# Altium footprint library ebf_mp157 s1 dev board_20210223_PCB封装_AD格式.PcbLib: 69 footprints (part 3 of 5)
Each footprint in its own frame and in the unit in brackets; x right, y up, seen from the top. Pads: shape width x height; smd on the part's side, far side on the other; paste and mask are expansions set on the pad; w line width, h text height; cw(c..) or ccw(c..) is an arc to the next point about the centre after c.
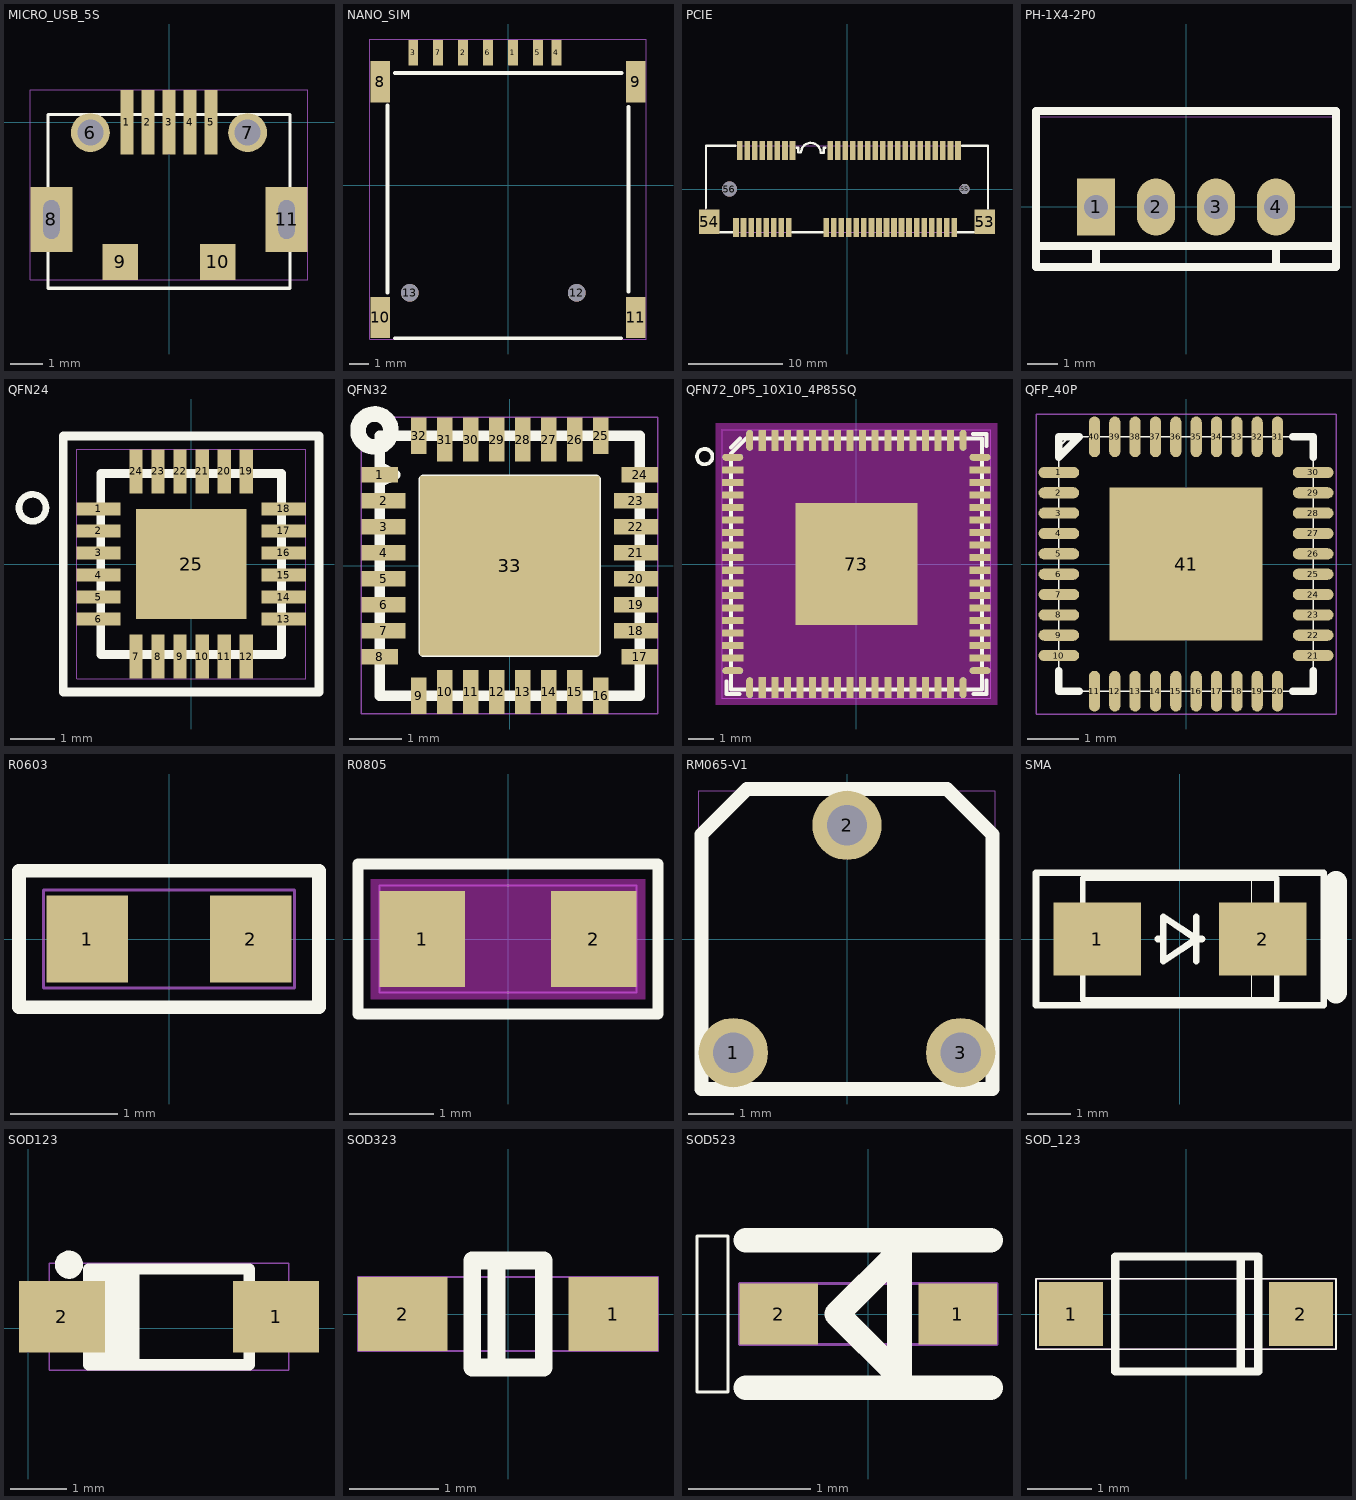
[diagram p2: the footprints below, top view; thin cyan lines are the x and y axes]

## MICRO_USB_5S [mm]
pads (11):
  rect 0.4x2 smd mask+0.05: 1(-1.3,0) 2(-0.65,0) 3(0,0) 4(0.65,0) 5(1.3,0)
  round 1.2 hole 0.8 mask+0.05: 6(-2.425,-0.32) 7(2.425,-0.32)
  rect 1.3x2 hole 0.5 slot 1.2 at 90 deg mask+0.05: 8(-3.625,-3) 11(3.625,-3)
  rect 1.1x1.1 smd mask+0.05: 9(-1.5,-4.31) 10(1.5,-4.31)
Top Overlay:
  lines w0.1: -3.73,-5.12 3.73,-5.12 ; -3.73,-5.12 -3.73,0.235 ; -3.73,-5.12 3.73,-5.12 ; -3.73,-5.12 -3.73,0.235 ; -3.73,0.235 3.73,0.235 ; -3.73,0.235 3.73,0.235 ; 3.73,-5.12 3.73,0.235 ; 3.73,-5.12 3.73,0.235
Top Assembly:
  text "J28" at -1.454,-0.635 h1.27
Mechanical 20:
  lines w0.025: -4.275,-4.86 4.275,-4.86 4.275,1 -4.275,1 -4.275,-4.86

## NANO_SIM [mm]
pads (13):
  rect 0.5x1.3 smd mask+0.05: 1(0.25,6.74) 2(-2.29,6.74) 3(-4.83,6.74) 4(2.47,6.74) 5(1.52,6.74) 6(-1.02,6.74) 7(-3.56,6.74)
  rect 1x2.1 smd mask+0.05: 8(-6.5,5.26) 9(6.5,5.26) 10(-6.5,-6.74) 11(6.5,-6.74)
  round 0.9 hole 0.9 unplated: 12(3.5,-5.49) 13(-5,-5.49)
Top Overlay:
  lines w0.2: -6.145,-5.468 -6.145,4.047 ; -5.756,5.7 5.784,5.7 ; -5.749,-7.8 0,-7.8 5.749,-7.8 ; 6.145,-5.415 6.145,3.989
Top Assembly:
  text "S1" at -0.716,-0.635 h1.27
Mechanical 20:
  lines w0.025: -7.05,-7.84 7.05,-7.84 7.05,7.44 -7.05,7.44 -7.05,-7.84

## PCIE [mm]
pads (56):
  rect 0.6x2 smd mask+0.05: 1(-11.8,-4.1) 2(-11.4,4.1) 3(-11,-4.1) 4(-10.6,4.1) 5(-10.2,-4.1) 6(-9.8,4.1) 7(-9.4,-4.1) 8(-9,4.1) 9(-8.6,-4.1) 10(-8.2,4.1) 11(-7.8,-4.1) 12(-7.4,4.1) 13(-7,-4.1) 14(-6.6,4.1) 15(-6.2,-4.1) 16(-5.8,4.1) 17(-2.2,-4.1) 18(-1.8,4.1) 19(-1.4,-4.1) 20(-1,4.1) 21(-0.6,-4.1) 22(-0.2,4.1) 23(0.2,-4.1) 24(0.6,4.1) 25(1,-4.1) 26(1.4,4.1) 27(1.8,-4.1) 28(2.2,4.1) 29(2.6,-4.1) 30(3,4.1) 31(3.4,-4.1) 32(3.8,4.1) 33(4.2,-4.1) 34(4.6,4.1) 35(5,-4.1) 36(5.4,4.1) 37(5.8,-4.1) 38(6.2,4.1) 39(6.6,-4.1) 40(7,4.1) 41(7.4,-4.1) 42(7.8,4.1) 43(8.2,-4.1) 44(8.6,4.1) 45(9,-4.1) 46(9.4,4.1) 47(9.8,-4.1) 48(10.2,4.1) 49(10.6,-4.1) 50(11,4.1) 51(11.4,-4.1) 52(11.8,4.1)
  rect 2.15x2.6 smd mask+0.05: 53(14.65,-3.5) 54(-14.65,-3.5)
  round 1.1 hole 1.1 unplated: 55(12.5,0)
  round 1.6 hole 1.6 unplated: 56(-12.5,0)
Top Overlay:
  lines w0.25: -15,-2.011 -15,4.6 -11.869,4.6 ; -13.487,-4.6 -12.194,-4.6 ; -5.803,-4.6 -2.572,-4.6 ; -5.325,4.387 -5.165,4.387 -5.165,3.883 -4.887,3.883 cw(c-3.843,3.859) -2.8,3.859 -2.8,3.847 -2.474,3.847 -2.474,4.381 -2.29,4.381 ; 11.787,-4.6 13.477,-4.6 ; 12.237,4.6 15,4.6 15,-2.08
Top Assembly:
  text "CON3" at 2.286,0.635 h1.27
Mechanical 20:
  lines w0.025: -15,-4.6 15,-4.6 15,4.6 -15,4.6 -15,-4.6

## PH-1X4-2P0 [mm]
pads (4):
  rect 1.27x1.905 hole 0.8 mask+0.064: 1(-3,0)
  oval 1.27x1.905 hole 0.8 mask+0.064: 2(-1,0) 3(1,0) 4(3,0)
Top Overlay:
  lines w0.254: -5,-1.3 5,-1.3 ; -3,-2 -3,-1.3 ; 3,-2 3,-1.3 ; -5,-2 -5,3.2 5,3.2 5,-2 -5,-2
Top Assembly:
  text "J27" at 1.454,0.635 h1.27
Mechanical 20:
  lines w0.025: -5,-2 -5,3 5,3 5,-2 -5,-2

## QFN24 [mm]
pads (25):
  rect 1x0.3 smd mask+0.05: 1(-2.1,1.25) 2(-2.1,0.75) 3(-2.1,0.25) 4(-2.1,-0.25) 5(-2.1,-0.75) 6(-2.1,-1.25) 13(2.1,-1.25) 14(2.1,-0.75) 15(2.1,-0.25) 16(2.1,0.25) 17(2.1,0.75) 18(2.1,1.25)
  rect 0.3x1 smd mask+0.05: 7(-1.25,-2.1) 8(-0.75,-2.1) 9(-0.25,-2.1) 10(0.25,-2.1) 11(0.75,-2.1) 12(1.25,-2.1) 19(1.25,2.1) 20(0.75,2.1) 21(0.25,2.1) 22(-0.25,2.1) 23(-0.75,2.1) 24(-1.25,2.1)
  rect 2.5x2.5 smd mask+0.05: 25(0,0)
Top Overlay:
  circle w0.152: c-3.599,1.275 r0.305
  lines w0.2: -2.9,-2.9 -2.9,2.9 2.9,2.9 2.9,-2.9 -2.9,-2.9 ; -2.05,-2.05 -2.05,2.05 2.05,2.05 2.05,-2.05 -2.05,-2.05
Top Assembly:
  text "U15" at 1.487,0.635 h1.27
Mechanical 20:
  lines w0.025: -2.6,-2.6 2.6,-2.6 2.6,2.6 -2.6,2.6 -2.6,-2.6

## QFN32 [mm]
pads (33):
  rect 0.7x0.3 smd mask+0.05: 1(-2.5,1.75) 8(-2.5,-1.75) 17(2.5,-1.75) 24(2.5,1.75)
  rect 0.85x0.3 smd mask+0.05: 2(-2.425,1.25) 3(-2.425,0.75) 4(-2.425,0.25) 5(-2.425,-0.25) 6(-2.425,-0.75) 7(-2.425,-1.25) 18(2.425,-1.25) 19(2.425,-0.75) 20(2.425,-0.25) 21(2.425,0.25) 22(2.425,0.75) 23(2.425,1.25)
  rect 0.3x0.7 smd mask+0.05: 9(-1.75,-2.5) 16(1.75,-2.5) 25(1.75,2.5) 32(-1.75,2.5)
  rect 0.3x0.85 smd mask+0.05: 10(-1.25,-2.425) 11(-0.75,-2.425) 12(-0.25,-2.425) 13(0.25,-2.425) 14(0.75,-2.425) 15(1.25,-2.425) 26(1.25,2.425) 27(0.75,2.425) 28(0.25,2.425) 29(-0.25,2.425) 30(-0.75,2.425) 31(-1.25,2.425)
  rect 3.45x3.45 smd mask+0.05: 33(0,0)
Top Overlay:
  circle w0.3: c-2.6,2.6 r0.316
  lines w0.2: -2.5,-2.5 -2.5,1.6 -2.2,1.75 -2.5,1.9 -2.5,2.5 2.5,2.5 2.5,-2.5 -2.5,-2.5 ; -1.65,-1.65 -1.65,1.65 1.65,1.65 1.65,-1.65 -1.65,-1.65
Top Assembly:
  text "U17" at -1.487,-0.635 h1.27
Mechanical 20:
  lines w0.025: -2.85,-2.85 2.85,-2.85 2.85,2.85 -2.85,2.85 -2.85,-2.85

## QFN72_0P5_10X10_4P85SQ [mil]
pads (73):
  oval 33x11 smd mask+2: 1(-193.9,167.32) 18(-193.9,-167.24) 37(193.9,-167.24) 54(193.9,167.32)
  rect 33x11 smd mask+2: 2(-193.9,147.64) 3(-193.9,127.96) 4(-193.9,108.28) 5(-193.9,88.6) 6(-193.9,68.92) 7(-193.9,49.24) 8(-193.9,29.56) 9(-193.9,9.88) 10(-193.9,-9.8) 11(-193.9,-29.48) 12(-193.9,-49.16) 13(-193.9,-68.84) 14(-193.9,-88.52) 15(-193.9,-108.2) 16(-193.9,-127.88) 17(-193.9,-147.56) 38(193.9,-147.56) 39(193.9,-127.88) 40(193.9,-108.2) 41(193.9,-88.52) 42(193.9,-68.84) 43(193.9,-49.16) 44(193.9,-29.48) 45(193.9,-9.8) 46(193.9,9.88) 47(193.9,29.56) 48(193.9,49.24) 49(193.9,68.92) 50(193.9,88.6) 51(193.9,108.28) 52(193.9,127.96) 53(193.9,147.64)
  oval 11x33 smd mask+2: 19(-167.32,-193.9) 36(167.24,-193.9) 55(167.24,193.9) 72(-167.32,193.9)
  rect 11x33 smd mask+2: 20(-147.64,-193.9) 21(-127.96,-193.9) 22(-108.28,-193.9) 23(-88.6,-193.9) 24(-68.92,-193.9) 25(-49.24,-193.9) 26(-29.56,-193.9) 27(-9.88,-193.9) 28(9.8,-193.9) 29(29.48,-193.9) 30(49.16,-193.9) 31(68.84,-193.9) 32(88.52,-193.9) 33(108.2,-193.9) 34(127.88,-193.9) 35(147.56,-193.9) 56(147.56,193.9) 57(127.88,193.9) 58(108.2,193.9) 59(88.52,193.9) 60(68.84,193.9) 61(49.16,193.9) 62(29.48,193.9) 63(9.8,193.9) 64(-9.88,193.9) 65(-29.56,193.9) 66(-49.24,193.9) 67(-68.92,193.9) 68(-88.6,193.9) 69(-108.28,193.9) 70(-127.96,193.9) 71(-147.64,193.9)
  rect 191x191 smd mask+2: 73(0,0)
Top Layer keep-out:
  region: -220.4,-220.4 -220.4,220.4 220.4,220.4 220.4,-220.4
Top Overlay:
  circle w5.98: c-237.92,168.31 r12.02
  lines w6: -203.85,-183.74 -203.85,-203.85 -183.18,-203.85 ; -196.83,182.67 -182.65,196.85 ; 182.99,203.85 203.85,203.85 203.85,184.94 ; 183.79,-203.85 203.85,-203.85 203.85,-182.75 ; -196.85,-196.85 -196.85,173.23 -173.23,196.85 196.85,196.85 196.85,-196.85 -196.85,-196.85
Top Paste:
  lines w1: -81.52,-81.52 -13.98,-81.52 -13.98,-13.98 -81.52,-13.98 -81.52,-81.52 ; -81.52,13.98 -13.98,13.98 -13.98,81.52 -81.52,81.52 -81.52,13.98 ; 13.98,-81.52 81.52,-81.52 81.52,-13.98 13.98,-13.98 13.98,-81.52 ; 13.98,13.98 81.52,13.98 81.52,81.52 13.98,81.52 13.98,13.98
Top Assembly:
  text "U20" at 62.49,25 h50
Mechanical 20:
  lines w1: -210.4,-210.4 -210.4,210.4 210.4,210.4 210.4,-210.4 -210.4,-210.4

## QFP_40P [mil]
pads (41):
  oval 31.5x8.66 smd mask+1.97: 1(-98.43,70.87) 2(-98.43,55.12) 3(-98.43,39.37) 4(-98.43,23.62) 5(-98.43,7.87) 6(-98.43,-7.87) 7(-98.43,-23.62) 8(-98.43,-39.37) 9(-98.43,-55.12) 10(-98.43,-70.87) 21(98.43,-70.87) 22(98.43,-55.12) 23(98.43,-39.37) 24(98.43,-23.62) 25(98.43,-7.87) 26(98.43,7.87) 27(98.43,23.62) 28(98.43,39.37) 29(98.43,55.12) 30(98.43,70.87)
  oval 8.66x31.5 smd mask+1.97: 11(-70.87,-98.43) 12(-55.12,-98.43) 13(-39.37,-98.43) 14(-23.62,-98.43) 15(-7.87,-98.43) 16(7.87,-98.43) 17(23.62,-98.43) 18(39.37,-98.43) 19(55.12,-98.43) 20(70.87,-98.43) 31(70.87,98.43) 32(55.12,98.43) 33(39.37,98.43) 34(23.62,98.43) 35(7.87,98.43) 36(-7.87,98.43) 37(-23.62,98.43) 38(-39.37,98.43) 39(-55.12,98.43) 40(-70.87,98.43)
  rect 118.11x118.11 smd mask+1.97: 41(0,0)
Top Overlay:
  lines w1: -98.43,90.55 -90.55,98.43 ; -98.43,-98.43 -98.43,98.43 ; -98.43,-98.43 98.43,-98.43 ; -98.43,-98.43 -98.43,98.43 ; -98.43,-98.43 98.43,-98.43 ; -98.43,98.43 98.43,98.43 ; -98.43,98.43 98.43,98.43 ; 98.43,-98.43 98.43,98.43 ; 98.43,-98.43 98.43,98.43
  lines w5.91: -98.43,-82.68 -98.43,-98.43 -82.68,-98.43 ; 82.68,-98.43 98.43,-98.43 98.43,-82.68 ; 82.68,98.43 98.43,98.43 98.43,82.68 ; -98.43,82.68 -82.68,98.43 -98.43,98.43 -98.43,82.68
Top Assembly:
  text "U14" at 59.75,25 h50
Mechanical 20:
  lines w1: -116.14,-116.14 116.14,-116.14 116.14,116.14 -116.14,116.14 -116.14,-116.14

## R0603 [mil]
pads (2):
  rect 30x32 smd mask+2.5: 1(-30,0) 2(30,0)
Top Overlay:
  lines w5: -55,-25 -55,25 55,25 55,-25 -55,-25
Top Assembly:
  text "R99" at 59.99,25 h50
Mechanical 20:
  lines w1: -46,-18 -46,18 46,18 46,-18 -46,-18

## R0805 [mil]
pads (2):
  rect 40x45 smd mask+4: 1(-40,0) 2(40,0)
Top Layer keep-out:
  region: -64,-28 -64,28 64,28 64,-28
Top Overlay:
  lines w5: -70,-35 -70,35 70,35 70,-35 -70,-35
Top Assembly:
  text "R145" at -79.51,-25 h50
Mechanical 20:
  lines w1: -60,-25 -60,25 60,25 60,-25 -60,-25

## RM065-V1 [mil]
pads (3):
  round 60 hole 35 mask+2.5: 1(-98.43,-98.43) 2(0,98.43) 3(98.43,-98.43)
Top Overlay:
  lines w12: -125.98,-129.92 125.98,-129.92 125.98,90.55 86.61,129.92 -86.61,129.92 -125.98,90.55 -125.98,-129.92
Top Assembly:
  text "RA1" at 53.08,25 h50
Mechanical 20:
  lines w1: -128.43,-128.43 128.43,-128.43 128.43,128.43 -128.43,128.43 -128.43,-128.43

## SMA [mil]
pads (2):
  rect 79x66 smd mask+3: 1(-74.8,0) 2(74.8,0)
Top Overlay:
  lines w1: 65,-55 90,-55 90,55 65,55 65,-55
  lines w5: -87.56,-30 -102.56,-30 -102.56,30 -87.56,30 ; 87.56,-30 102.56,-30 102.56,30 87.56,30 ; -87.56,-55 -87.56,55 87.56,55 87.56,-55 -87.56,-55
  lines w6: -20,0 -15,0 ; 15,-20 15,20 ; 20,0 15,0 ; 15,0 -15,20 -15,-20 15,0 ; -130,-60 -130,60 130,60 130,-60 -130,-60
  lines w19.69: 141.17,-48.28 141.17,51.72
Top Assembly:
  text "D1" at 28.21,25 h50
Mechanical 20:
  lines w1: -130,-60 -130,60 130,60 130,-60 -130,-60

## SOD123 [mil]
pads (2):
  rect 60x50 smd mask+5: 1(173.23,7.87) 2(23.62,7.87)
Top Overlay:
  circle w9.84: c28.54,44.29 r4.92
  lines w7.87: 46.26,-25.59 46.26,41.34 ; 50.2,-25.59 50.2,41.34 ; 54.13,-25.59 54.13,41.34 ; 58.07,-25.59 58.07,41.34 ; 62.01,-25.59 62.01,41.34 ; 65.94,-25.59 65.94,41.34 ; 73.82,-25.59 73.82,41.34 ; 42.32,-25.59 42.32,41.34 ; 42.32,-25.59 154.53,-25.59 ; 42.32,-25.59 42.32,41.34 ; 42.32,-25.59 154.53,-25.59 ; 42.32,41.34 154.53,41.34 ; 42.32,41.34 154.53,41.34 ; 154.53,-25.59 154.53,41.34 ; 154.53,-25.59 154.53,41.34 ; 22.64,-0.98 22.64,16.73 38.39,16.73 38.39,-0.98 22.64,-0.98 ; 158.46,-0.98 158.46,16.73 174.21,16.73 174.21,-0.98 158.46,-0.98
Top Assembly:
  text "D10" at 57.25,25 h50
Mechanical 20:
  lines w1: 14.76,-29.53 182.09,-29.53 182.09,45.28 14.76,45.28 14.76,-29.53

## SOD323 [mm]
pads (2):
  rect 1x0.83 smd mask+0.05: 1(1.18,0) 2(-1.18,0)
Top Overlay:
  lines w0.2: -0.13,-0.6 -0.13,0.6 ; -0.4,-0.6 0.4,-0.6 0.4,0.6 -0.4,0.6 -0.4,-0.6
Top Assembly:
  text "Z4" at -1.019,-0.635 h1.27
Mechanical 20:
  lines w0.025: -1.68,-0.415 1.68,-0.415 1.68,0.415 -1.68,0.415 -1.68,-0.415

## SOD523 [mm]
pads (2):
  rect 0.64x0.5 smd mask+0.05: 1(0.73,0) 2(-0.73,0)
Top Overlay:
  lines w0.025: -1.397,-0.635 -1.143,-0.635 -1.143,0.635 -1.397,0.635 -1.397,-0.635
  lines w0.2: -1,-0.6 1,-0.6 ; -1,0.6 1,0.6
  lines w0.203: -0.254,0 0.254,-0.508 0.254,0.508 -0.254,0
Top Assembly:
  text "TVS5" at -2.053,-0.635 h1.27
Mechanical 20:
  lines w0.025: -1.05,-0.25 1.05,-0.25 1.05,0.25 -1.05,0.25 -1.05,-0.25

## SOD_123 [mm]
pads (2):
  rect 1x1 smd mask+0.05: 1(-1.8,0) 2(1.8,0)
Top Overlay:
  lines w0.025: -2.35,-0.55 2.35,-0.55 2.35,0.55 -2.35,0.55 -2.35,-0.55
  lines w0.13: 0.86,-0.9 0.86,0.9 ; -1.11,-0.9 1.13,-0.9 1.13,0.9 -1.11,0.9 -1.11,-0.9
Top Assembly:
  text "D7" at -0.989,-0.635 h1.27
Mechanical 20:
  lines w0.025: -2.35,-0.55 2.35,-0.55 2.35,0.55 -2.35,0.55 -2.35,-0.55